# Altium schematic symbol library SamacSys.SchLib: 18 symbols
Pins are listed as number, name and electrical type; pins without a type are passive.

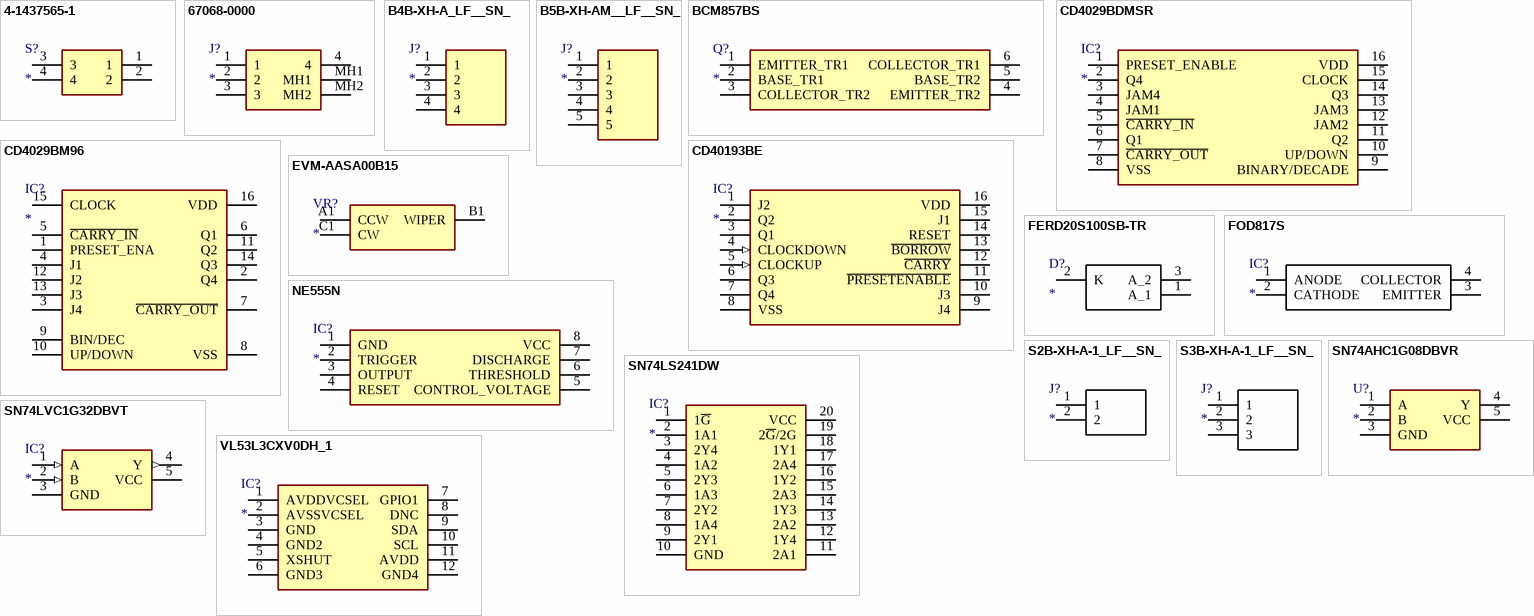
[diagram p0: symbols 4-1437565-1 to VL53L3CXV0DH_1]

## 4-1437565-1
designator S?
Switch; Manufacturer_Name: TE Connectivity; Manufacturer_Part_Number: 4-1437565-1; Datasheet Link: http://docs-emea.rs-online.com/webdocs/14a3/0900766b814a3369.pdf; Arrow Part Number: 4-1437565-1; Arrow Price/Stock: https://www.arrow.com/en/products/4-1437565-1/te-connectivity; Mouser Part Number: N/A; Mouser Price/Stock: https://www.mouser.com/Search/Refine.aspx?Keyword=N%2FA
footprint FSM-SWITCH
pins: 1, 2, 3, 4

## 67068-0000
designator J?
Connector; Manufacturer_Name: Molex; Manufacturer_Part_Number: 67068-0000; Datasheet Link: http://uk.rs-online.com/web/p/products/3248356; Height: 11mm; Mouser Part Number: 538-67068-0000; Mouser Price/Stock: https://www.mouser.com/Search/Refine.aspx?Keyword=538-67068-0000
footprint 670680000
pins: 1, 2, 3, 4, MH1, MH2

## B4B-XH-A_LF__SN_
designator J?
Connector; Manufacturer_Name: JST (JAPAN SOLDERLESS TERMINALS); Manufacturer_Part_Number: B4B-XH-A(LF)(SN); Datasheet Link: https://datasheet.lcsc.com/szlcsc/JST-Sales-America-B4B-XH-A-LF-SN_C144395.pdf; Height: 7mm; Arrow Part Number: B4B-XH-A(LF)(SN); Arrow Price/Stock: https://www.arrow.com/en/products/b4b-xh-a-lf-sn/jst-manufacturing?region=europe
footprint B4BXHALFSN
pins: 1, 2, 3, 4

## B5B-XH-AM__LF__SN_
designator J?
Connector; Manufacturer_Name: JST (JAPAN SOLDERLESS TERMINALS); Manufacturer_Part_Number: B5B-XH-AM (LF)(SN); Datasheet Link: http://uk.rs-online.com/web/p/products/1755317; Height: 7mm; Arrow Part Number: B5B-XH-AM (LF)(SN); Arrow Price/Stock: https://www.arrow.com/en/products/b5b-xh-am-lf-sn/jst-manufacturing
footprint B5BXHAMLFSN
pins: 1, 2, 3, 4, 5

## BCM857BS
designator Q?
Transistor; Manufacturer_Name: Nexperia; Manufacturer_Part_Number: BCM857BS; Description: NEXPERIA - BCM857BS - TRANSISTOR; Datasheet Link: https://assets.nexperia.com/documents/data-sheet/BCM857BV_BS_DS.pdf; Height: 1.1mm; Mouser Part Number: N/A; Mouser Price/Stock: https://www.mouser.co.uk/ProductDetail/Nexperia/BCM857BS?qs=vHuUswq2%252Bsx3907O7VVxDg%3D%3D
footprint SOT65P210X110-6N
pins: 1 EMITTER_TR1, 2 BASE_TR1, 3 COLLECTOR_TR2, 4 EMITTER_TR2, 5 BASE_TR2, 6 COLLECTOR_TR1

## CD4029BDMSR
designator IC?
Integrated Circuit; Manufacturer_Name: Renesas Electronics; Manufacturer_Part_Number: CD4029BDMSR; Datasheet Link: https://www.renesas.com/en-us/www/doc/datasheet/cd4029bms.pdf; Height: 5.08mm
footprint DIP762W66P254L2134H508Q16N
pins: 1 PRESET_ENABLE, 2 Q4, 3 JAM4, 4 JAM1, 5 ~{CARRY_IN}, 6 Q1, 7 ~{CARRY_OUT}, 8 VSS, 9 BINARY/DECADE, 10 UP/DOWN, 11 Q2, 12 JAM2, 13 JAM3, 14 Q3, 15 CLOCK, 16 VDD

## CD4029BM96
designator IC?
Integrated Circuit; Manufacturer_Name: Texas Instruments; Manufacturer_Part_Number: CD4029BM96; Datasheet Link: http://www.ti.com/lit/gpn/cd4029b; Height: 1.75mm; Arrow Part Number: CD4029BM96; Arrow Price/Stock: https://www.arrow.com/en/products/cd4029bm96/texas-instruments; Mouser Part Number: 595-CD4029BM96; Mouser Price/Stock: https://www.mouser.co.uk/ProductDetail/Texas-Instruments/CD4029BM96?qs=LU5rZWrBGo0isl%252BErG%2F5MQ%3D%3D
footprint SOIC127P600X175-16N
pins: 1 PRESET_ENA, 2 Q4, 3 J4, 4 J1, 5 ~{CARRY_IN}, 6 Q1, 7 ~{CARRY_OUT}, 8 VSS, 9 BIN/DEC, 10 UP/DOWN, 11 Q2, 12 J2, 13 J3, 14 Q3, 15 CLOCK, 16 VDD

## CD40193BE
designator IC?
Integrated Circuit; Manufacturer_Name: Texas Instruments; Manufacturer_Part_Number: CD40193BE; Datasheet Link: http://www.ti.com/lit/ds/symlink/cd40192b.pdf; Height: 5.08mm; Arrow Part Number: CD40193BE; Arrow Price/Stock: https://www.arrow.com/en/products/cd40193be/texas-instruments; Mouser Part Number: 595-CD40193BE; Mouser Price/Stock: https://www.mouser.co.uk/ProductDetail/Texas-Instruments/CD40193BE?qs=D5pVkbrsqqK9UQwfGopiNQ%3D%3D
footprint DIP794W53P254L1930H508Q16N
pins: 1 J2, 2 Q2, 3 Q1, 4 CLOCKDOWN (in), 5 CLOCKUP (in), 6 Q3, 7 Q4, 8 VSS (power), 9 J4, 10 J3, 11 ~{PRESETENABLE}, 12 ~{CARRY}, 13 ~{BORROW}, 14 RESET, 15 J1, 16 VDD (power)

## EVM-AASA00B15
designator VR?
Variable Resistor; Manufacturer_Name: Panasonic; Manufacturer_Part_Number: EVM-AASA00B15; Datasheet Link: https://componentsearchengine.com/Datasheets/2/EVMAASA00B15.pdf; Height: 7.6mm; Mouser Part Number: 667-EVM-AASA00B15; Mouser Price/Stock: https://www.mouser.com/Search/Refine.aspx?Keyword=667-EVM-AASA00B15
footprint EVMAASA00B15
pins: A1 CCW, B1 WIPER, C1 CW

## FERD20S100SB-TR
designator D?
Diode; Manufacturer_Name: STMicroelectronics; Manufacturer_Part_Number: FERD20S100SB-TR; Datasheet Link: https://www.mouser.com/datasheet/2/389/dm00272110-1798832.pdf; Height: 2.4mm; Arrow Part Number: FERD20S100SB-TR; Arrow Price/Stock: https://www.arrow.com/en/products/ferd20s100sb-tr/stmicroelectronics; Mouser Part Number: 511-FERD20S100SB-TR; Mouser Price/Stock: https://www.mouser.co.uk/ProductDetail/STMicroelectronics/FERD20S100SB-TR?qs=u4fy%2FsgLU9N8IipzyIKZ6Q%3D%3D
footprint FERD20H100SBTR
pins: 1 A_1, 2 K, 3 A_2

## FOD817S
designator IC?
Integrated Circuit; Manufacturer_Name: ON Semiconductor; Manufacturer_Part_Number: FOD817S; Datasheet Link: https://componentsearchengine.com/Datasheets/1/FOD817S.pdf; Height: 3.85mm; Arrow Part Number: FOD817S; Arrow Price/Stock: https://www.arrow.com/en/products/fod817s/on-semiconductor; Mouser Part Number: 512-FOD817S; Mouser Price/Stock: https://www.mouser.co.uk/ProductDetail/ON-Semiconductor-Fairchild/FOD817S?qs=32VJUWvZ7Xab7eM00K2DFA%3D%3D
footprint SOP254P1016X385-4N
pins: 1 ANODE, 2 CATHODE, 3 EMITTER, 4 COLLECTOR

## NE555N
designator IC?
Integrated Circuit; Manufacturer_Name: ST; Manufacturer_Part_Number: NE555N; Datasheet Link: http://uk.rs-online.com/web/p/products/0305478; Height: 5.33mm; Mouser Part Number: N/A; Mouser Price/Stock: https://www.mouser.com/Search/Refine.aspx?Keyword=N%2FA
footprint DIP762W56P254L959H533Q8N
pins: 1 GND, 2 TRIGGER, 3 OUTPUT, 4 RESET, 5 CONTROL_VOLTAGE, 6 THRESHOLD, 7 DISCHARGE, 8 VCC

## S2B-XH-A-1_LF__SN_
designator J?
Connector; Manufacturer_Name: JST (JAPAN SOLDERLESS TERMINALS); Manufacturer_Part_Number: S2B-XH-A-1(LF)(SN); Datasheet Link: http://www.jst-mfg.com/product/pdf/eng/eXH.pdf; Height: 6.1mm; Arrow Part Number: S2B-XH-A-1(LF)(SN)
footprint S2B-XH-A
pins: 1, 2

## S3B-XH-A-1_LF__SN_
designator J?
Connector; Manufacturer_Name: JST Sales America; Manufacturer_Part_Number: S3B-XH-A-1(LF)(SN); Datasheet Link: http://www.jst-mfg.com/product/pdf/eng/eXH.pdf?5de523f84a15d; Height: 6.1mm; Arrow Part Number: S3B-XH-A-1(LF)(SN)
footprint S3B-XH-A
pins: 1, 2, 3

## SN74AHC1G08DBVR
designator U?
Undefined or Miscellaneous; Manufacturer_Name: Texas Instruments; Manufacturer_Part_Number: SN74AHC1G08DBVR; Datasheet Link: http://www.ti.com/general/docs/lit/getliterature.tsp?genericPartNumber=SN74AHC1G08&&fileType=pdf; Height: 1.45mm; Arrow Part Number: SN74AHC1G08DBVR; Arrow Price/Stock: https://www.arrow.com/en/products/sn74ahc1g08dbvr/texas-instruments; Mouser Part Number: 595-SN74AHC1G08DBVR; Mouser Price/Stock: https://www.mouser.co.uk/ProductDetail/Texas-Instruments/SN74AHC1G08DBVR?qs=tJ5HNKWh3OXzGHgsEkuHbw%3D%3D
footprint SOT95P280X145-5N
pins: 1 A, 2 B, 3 GND, 4 Y, 5 VCC

## SN74LS241DW
designator IC?
Integrated Circuit; Manufacturer_Name: Texas Instruments; Manufacturer_Part_Number: SN74LS241DW; Datasheet Link: http://www.ti.com/lit/gpn/SN74LS241; Height: 2.65mm; Arrow Part Number: SN74LS241DW; Arrow Price/Stock: https://www.arrow.com/en/products/sn74ls241dw/texas-instruments; Mouser Part Number: 595-SN74LS241DW; Mouser Price/Stock: https://www.mouser.co.uk/ProductDetail/Texas-Instruments/SN74LS241DW?qs=SL3LIuy2dWxYUNFhEYJjgw%3D%3D
footprint SOIC127P1030X265-20N
pins: 1 1~{G}, 2 1A1, 3 2Y4, 4 1A2, 5 2Y3, 6 1A3, 7 2Y2, 8 1A4, 9 2Y1, 10 GND, 11 2A1, 12 1Y4, 13 2A2, 14 1Y3, 15 2A3, 16 1Y2, 17 2A4, 18 1Y1, 19 2~{G}/2G, 20 VCC

## SN74LVC1G32DBVT
designator IC?
Integrated Circuit; Manufacturer_Name: Texas Instruments; Manufacturer_Part_Number: SN74LVC1G32DBVT; Datasheet Link: http://www.ti.com/lit/ds/symlink/sn74lvc1g32.pdf; Height: 1.45mm; Arrow Part Number: SN74LVC1G32DBVT; Arrow Price/Stock: https://www.arrow.com/en/products/sn74lvc1g32dbvt/texas-instruments; Mouser Part Number: 595-SN74LVC1G32DBVT; Mouser Price/Stock: https://www.mouser.co.uk/ProductDetail/Texas-Instruments/SN74LVC1G32DBVT?qs=3pnr37ZAbK8uO%252Bsik6I8Zw%3D%3D
footprint SOT95P280X145-5N
pins: 1 A (in), 2 B (in), 3 GND (power), 4 Y (out), 5 VCC (power)

## VL53L3CXV0DH_1
designator IC?
Integrated Circuit; Manufacturer_Name: STMicroelectronics; Manufacturer_Part_Number: VL53L3CXV0DH/1; Datasheet Link: https://www.st.com/resource/en/datasheet/vl53l3cx.pdf; Height: 1.4mm; Mouser Part Number: 511-VL53L3CXV0DH/1; Mouser Price/Stock: https://www.mouser.co.uk/ProductDetail/STMicroelectronics/VL53L3CXV0DH-1?qs=OlC7AqGiEDl6J00dxEJKnQ%3D%3D; Arrow Part Number: VL53L3CXV0DH/1; Arrow Price/Stock: https://www.arrow.com/en/products/vl53l3cxv0dh1/stmicroelectronics?region=nac
footprint VL53L3CXV0DH1
pins: 1 AVDDVCSEL, 2 AVSSVCSEL, 3 GND, 4 GND2, 5 XSHUT, 6 GND3, 7 GPIO1, 8 DNC, 9 SDA, 10 SCL, 11 AVDD, 12 GND4